# EAGLE library part STM32F405RG (library KVB-MCUs)
ARM® Cortex®-M4 STM32F4 Microcontroller IC 32-Bit 168MHz 1MB (1M x 8) FLASH 64-LQFP (10x10)
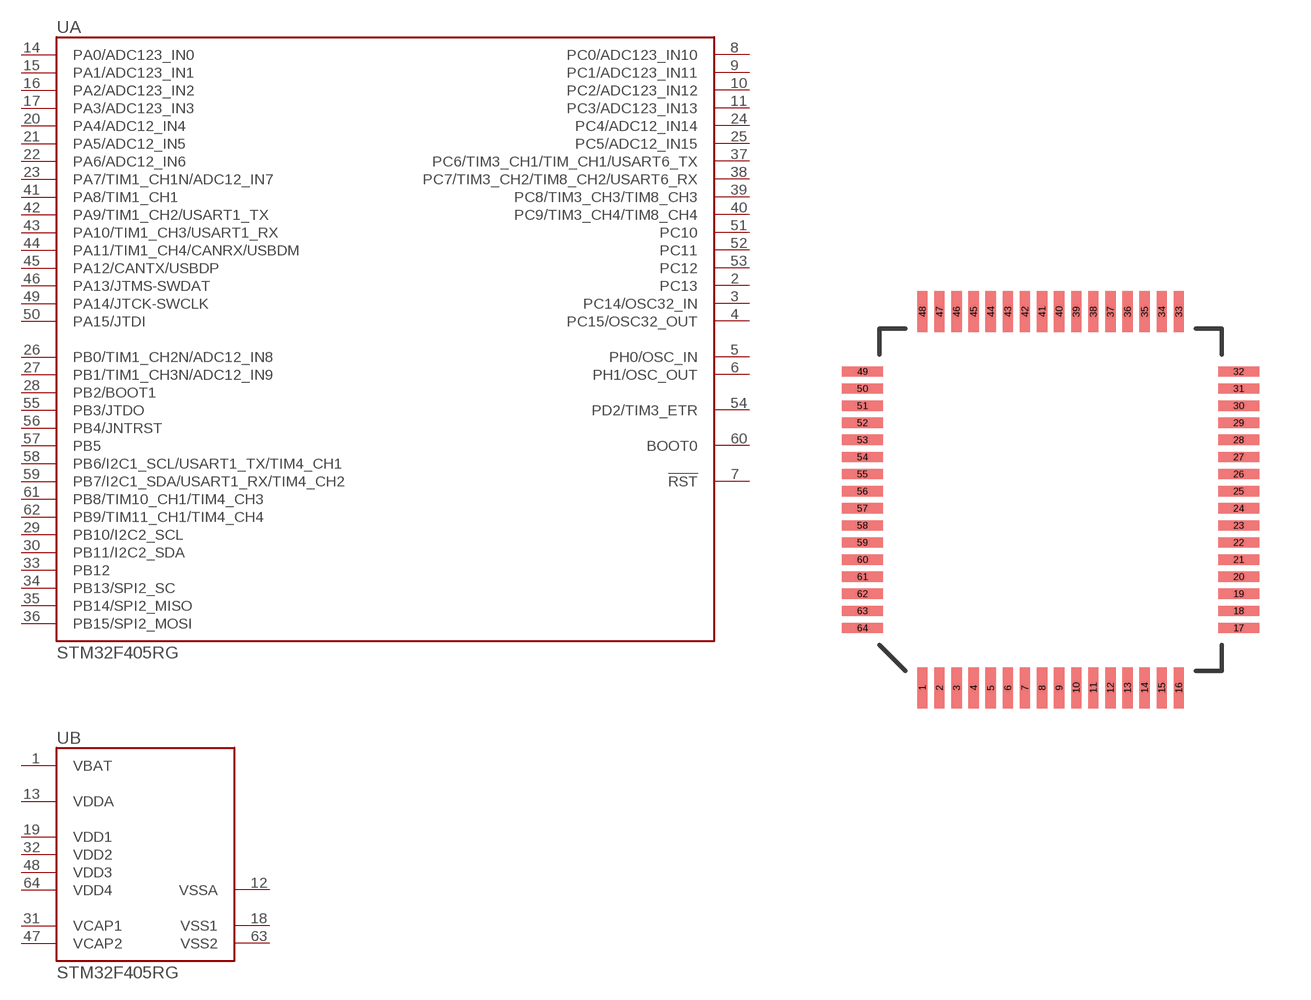
[diagram p3: symbol with the pads of LQFP64; footprint LQFP64]

Designator prefix U; gates A=STM32F405RG-A B=STM32F405RG-B

## STM32F405RG (MAN-PART_NUM: STM32F405RGT6; MANUFACTURER: STMicroelectronics)  [LQFP64]
1  B:VBAT
2  A:PC13
3  A:PC14/OSC32_IN
4  A:PC15/OSC32_OUT
5  A:PH0/OSC_IN
6  A:PH1/OSC_OUT
7  A:!RST
8  A:PC0/ADC123_IN10
9  A:PC1/ADC123_IN11
10  A:PC2/ADC123_IN12
11  A:PC3/ADC123_IN13
12  B:VSSA
13  B:VDDA
14  A:PA0/ADC123_IN0
15  A:PA1/ADC123_IN1
16  A:PA2/ADC123_IN2
17  A:PA3/ADC123_IN3
18  B:VSS1
19  B:VDD1
20  A:PA4/ADC12_IN4
21  A:PA5/ADC12_IN5
22  A:PA6/ADC12_IN6
23  A:PA7/TIM1_CH1N/ADC12_IN7
24  A:PC4/ADC12_IN14
25  A:PC5/ADC12_IN15
26  A:PB0/TIM1_CH2N/ADC12_IN8
27  A:PB1/TIM1_CH3N/ADC12_IN9
28  A:PB2/BOOT1
29  A:PB10/I2C2_SCL
30  A:PB11/I2C2_SDA
31  B:VCAP1
32  B:VDD2
33  A:PB12
34  A:PB13/SPI2_SC
35  A:PB14/SPI2_MISO
36  A:PB15/SPI2_MOSI
37  A:PC6/TIM3_CH1/TIM_CH1/USART6_TX
38  A:PC7/TIM3_CH2/TIM8_CH2/USART6_RX
39  A:PC8/TIM3_CH3/TIM8_CH3
40  A:PC9/TIM3_CH4/TIM8_CH4
41  A:PA8/TIM1_CH1
42  A:PA9/TIM1_CH2/USART1_TX
43  A:PA10/TIM1_CH3/USART1_RX
44  A:PA11/TIM1_CH4/CANRX/USBDM
45  A:PA12/CANTX/USBDP
46  A:PA13/JTMS-SWDAT
47  B:VCAP2
48  B:VDD3
49  A:PA14/JTCK-SWCLK
50  A:PA15/JTDI
51  A:PC10
52  A:PC11
53  A:PC12
54  A:PD2/TIM3_ETR
55  A:PB3/JTDO
56  A:PB4/JNTRST
57  A:PB5
58  A:PB6/I2C1_SCL/USART1_TX/TIM4_CH1
59  A:PB7/I2C1_SDA/USART1_RX/TIM4_CH2
60  A:BOOT0
61  A:PB8/TIM10_CH1/TIM4_CH3
62  A:PB9/TIM11_CH1/TIM4_CH4
63  B:VSS2
64  B:VDD4

## Footprint LQFP64 (pad centres in mm)
smd 0.3 x 1.2: 1 -3.75,-5.5; 2 -3.25,-5.5; 3 -2.75,-5.5; 4 -2.25,-5.5; 5 -1.75,-5.5; 6 -1.25,-5.5; 7 -0.75,-5.5; 8 -0.25,-5.5; 9 0.25,-5.5; 10 0.75,-5.5; 11 1.25,-5.5; 12 1.75,-5.5; 13 2.25,-5.5; 14 2.75,-5.5; 15 3.25,-5.5; 16 3.75,-5.5; 33 3.75,5.5; 34 3.25,5.5; 35 2.75,5.5; 36 2.25,5.5; 37 1.75,5.5; 38 1.25,5.5; 39 0.75,5.5; 40 0.25,5.5; 41 -0.25,5.5; 42 -0.75,5.5; 43 -1.25,5.5; 44 -1.75,5.5; 45 -2.25,5.5; 46 -2.75,5.5; 47 -3.25,5.5; 48 -3.75,5.5
smd 1.2 x 0.3: 17 5.5,-3.75; 18 5.5,-3.25; 19 5.5,-2.75; 20 5.5,-2.25; 21 5.5,-1.75; 22 5.5,-1.25; 23 5.5,-0.75; 24 5.5,-0.25; 25 5.5,0.25; 26 5.5,0.75; 27 5.5,1.25; 28 5.5,1.75; 29 5.5,2.25; 30 5.5,2.75; 31 5.5,3.25; 32 5.5,3.75; 49 -5.5,3.75; 50 -5.5,3.25; 51 -5.5,2.75; 52 -5.5,2.25; 53 -5.5,1.75; 54 -5.5,1.25; 55 -5.5,0.75; 56 -5.5,0.25; 57 -5.5,-0.25; 58 -5.5,-0.75; 59 -5.5,-1.25; 60 -5.5,-1.75; 61 -5.5,-2.25; 62 -5.5,-2.75; 63 -5.5,-3.25; 64 -5.5,-3.75